# Altium footprint library HC_SR04_Module.PcbLib: 1 footprints
Each footprint in its own frame and in the unit in brackets; x right, y up, seen from the top. Pads: shape width x height; smd on the part's side, far side on the other; paste and mask are expansions set on the pad; w line width, h text height; cw(c..) or ccw(c..) is an arc to the next point about the centre after c.
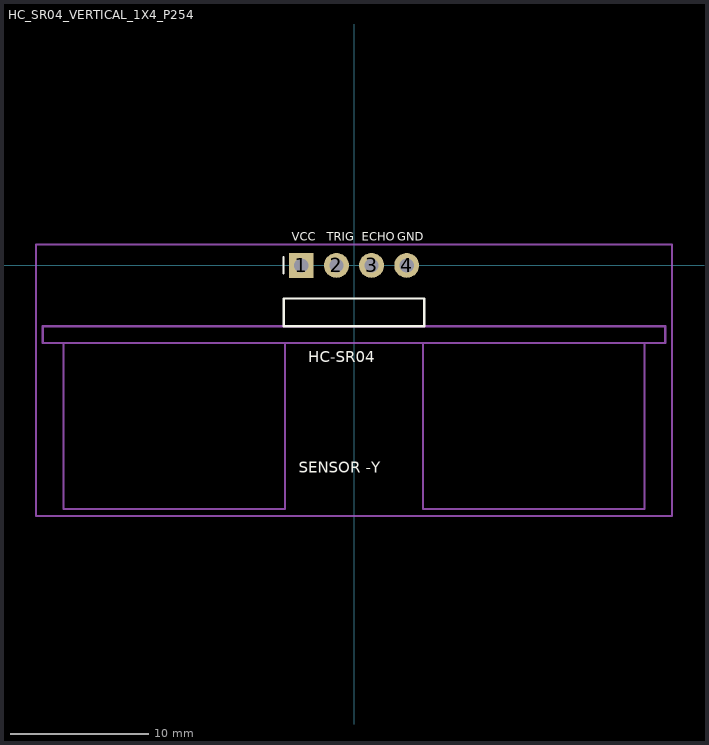
[diagram p0: the footprint, top view; thin cyan lines are the x and y axes]

## HC_SR04_VERTICAL_1X4_P254 [mm] "HC-SR04 vertical module, right-angle header, 1x4 2.54 mm; sensor faces -Y"
height 20
pads (4):
  rect 1.8x1.8 hole 1.02 mask+0.1: 1(-3.81,0)
  round 1.8 hole 1.02 mask+0.1: 2(-1.27,0) 3(1.27,0) 4(3.81,0)
Top Overlay:
  lines w0.15: -5.1,-0.6 -5.1,0.6 ; -5.08,-4.4 5.08,-4.4 5.08,-2.4 -5.08,-2.4 -5.08,-4.4
  text "VCC" at -4.51,1.8 h0.6
  text "TRIG" at -1.97,1.8 h0.6
  text "ECHO" at 0.57,1.8 h0.6
  text "GND" at 3.11,1.8 h0.6
  text "HC-SR04" at -3.3,-7 h0.8
  text "SENSOR -Y" at -4,-15 h0.8
Mechanical 13:
  lines w0.15: -22.5,-5.6 22.5,-5.6 22.5,-4.4 -22.5,-4.4 -22.5,-5.6 ; -21,-17.6 -5,-17.6 -5,-5.6 -21,-5.6 -21,-17.6 ; 5,-17.6 21,-17.6 21,-5.6 5,-5.6 5,-17.6
Mechanical 15:
  lines w0.15: -23,-18.1 23,-18.1 23,1.5 -23,1.5 -23,-18.1
3D body "HC_SR04.step": height 20, standoff 0, extent -22.5,-17.6 22.5,0.2